# Altium integrated library 52207-0485.IntLib: 1 symbol
Pins are listed as number, name and electrical type; pins without a type are passive.

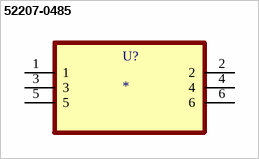
[diagram p0: symbol 52207-0485]

## 52207-0485
designator U?
SOCKET FPC, SMT, 1MM, 4 WAY; MP: 52207-0485; Package: None; Price: None; Value: *; Availability: Unavailable
footprint MOLEX_52207-0485
pins: 1, 2, 3, 4, 5, 6